# Altium footprint library CASE 369C-01.PcbLib: 1 footprints
Each footprint in its own frame and in the unit in brackets; x right, y up, seen from the top. Pads: shape width x height; smd on the part's side, far side on the other; paste and mask are expansions set on the pad; w line width, h text height; cw(c..) or ccw(c..) is an arc to the next point about the centre after c.
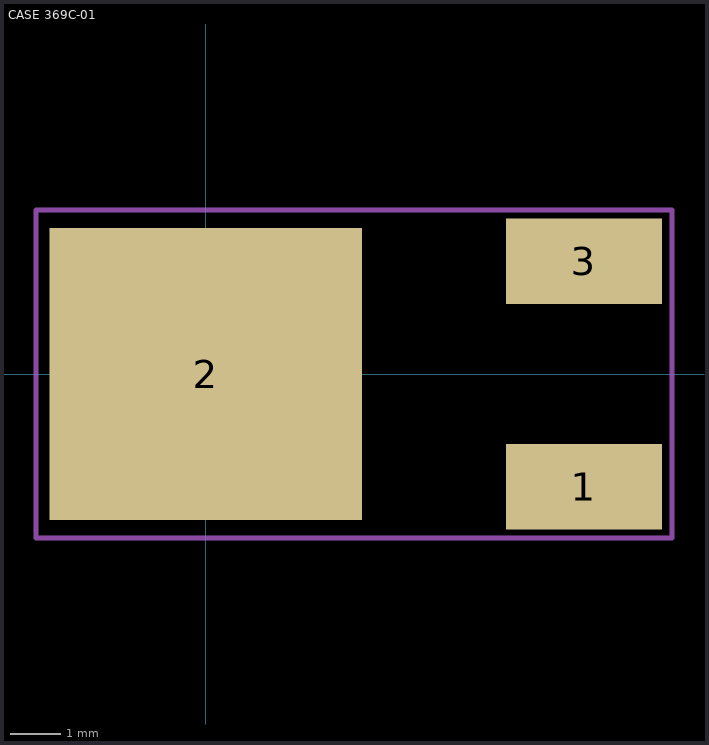
[diagram p0: the footprint, top view; thin cyan lines are the x and y axes]

## CASE 369C-01 [mm]
height 2
pads (3):
  rect 3.1x1.7 smd: 1(7.5,-2.236) 3(7.5,2.236)
  rect 6.2x5.8 smd: 2(0,0)
Mechanical 3:
  lines w0.1: -3.375,-3.25 -3.375,3.25 9.25,3.25 9.25,-3.25 -3.375,-3.25
3D body: height 1, standoff 0, extent 3.1,-2.8 7.975,-1.55
3D body: height 1, standoff 0, extent 3.1,1.5 7.975,2.75
3D body: height 2.38, standoff 0, extent -3.1,-2.9 3.1,2.9